# EAGLE library part 744C083 (library aarf)
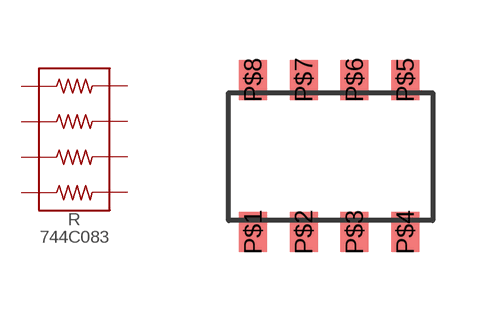
[diagram p6: symbol with the pads of 1206X4; footprint 1206X4]

Designator prefix R

## 744C083  [1206X4]
P$1  1  pas
P$2  2  pas
P$3  3  pas
P$4  4  pas
P$5  5  pas
P$6  6  pas
P$7  7  pas
P$8  8  pas

## Footprint 1206X4 (pad centres in mm)
smd 0.7 x 1: P$1 -1.9,-1.9; P$2 -0.63,-1.9; P$3 0.64,-1.9; P$4 1.91,-1.9; P$5 1.91,1.91; P$6 0.64,1.91; P$7 -0.63,1.91; P$8 -1.9,1.91